# Altium schematic symbol library Resistores.SchLib: 222 symbols
Pins are listed as number, name and electrical type; pins without a type are passive.

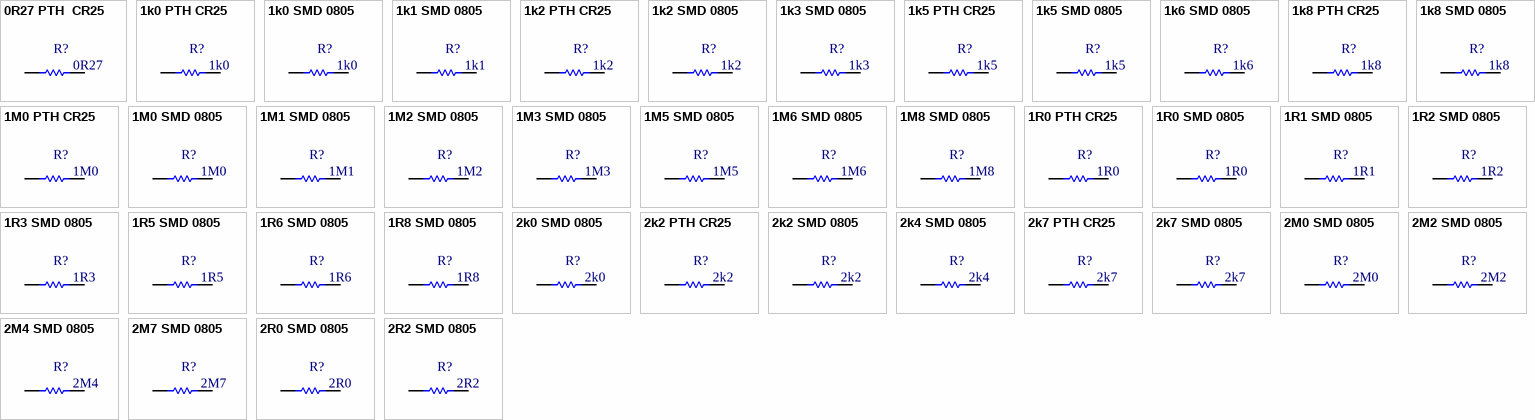
[diagram p0: symbols 0R27 PTH  CR25 to 2R2 SMD 0805]

## 0R27 PTH  CR25
designator R?  Valor/Partnumber: 0R27  (hidden comment: 0R27 PTH  CR25)
Resistor PTH CR25 1/8W; Tolerância: 5%; Fornecedor1: *; Potência: 1/8W; Montagem: PTH
footprint CR25 (PTH 400 mils)
pins: 1, 2

## 1k0 PTH CR25
designator R?, comment 1k0
Resistor PTH CR25 1/8W; Tolerância: 5%; Fornecedor1: *; Potência: 1/8W; Montagem: PTH; Valor/Partnumber: 1k0
footprint CR25 (PTH 400 mils)
pins: 1, 2

## 1k0 SMD 0805
designator R?  Valor/Partnumber: 1k0  (hidden comment: 1k0 SMD 0805)
Resistor SMD 0805 1/8W; Tolerância: 5%; Fornecedor1: *; Potência: 1/8W; Montagem: SMD
footprint 0805 (SMD 0805 inch - 2012 mm)
pins: 1, 2

## 1k1 SMD 0805
designator R?  Valor/Partnumber: 1k1  (hidden comment: 1k1 SMD 0805)
Resistor SMD 0805 1/8W; Tolerância: 5%; Fornecedor1: *; Potência: 1/8W; Montagem: SMD
footprint 0805 (SMD 0805 inch - 2012 mm)
pins: 1, 2

## 1k2 PTH CR25
designator R?, comment 1k2
Resistor PTH CR25 1/8W; Tolerância: 5%; Fornecedor1: *; Potência: 1/8W; Montagem: PTH; Valor/Partnumber: 1k2
footprint CR25 (PTH 400 mils)
pins: 1, 2

## 1k2 SMD 0805
designator R?  Valor/Partnumber: 1k2  (hidden comment: 1k2 SMD 0805)
Resistor SMD 0805 1/8W; Tolerância: 5%; Fornecedor1: *; Potência: 1/8W; Montagem: SMD
footprint 0805 (SMD 0805 inch - 2012 mm)
pins: 1, 2

## 1k3 SMD 0805
designator R?  Valor/Partnumber: 1k3  (hidden comment: 1k3 SMD 0805)
Resistor SMD 0805 1/8W; Tolerância: 5%; Fornecedor1: *; Potência: 1/8W; Montagem: SMD
footprint 0805 (SMD 0805 inch - 2012 mm)
pins: 1, 2

## 1k5 PTH CR25
designator R?, comment 1k5
Resistor PTH CR25 1/8W; Tolerância: 5%; Fornecedor1: *; Potência: 1/8W; Montagem: PTH; Valor/Partnumber: 1k5
footprint CR25 (PTH 400 mils)
pins: 1, 2

## 1k5 SMD 0805
designator R?  Valor/Partnumber: 1k5  (hidden comment: 1k5 SMD 0805)
Resistor SMD 0805 1/8W; Tolerância: 5%; Fornecedor1: *; Potência: 1/8W; Montagem: SMD
footprint 0805 (SMD 0805 inch - 2012 mm)
pins: 1, 2

## 1k6 SMD 0805
designator R?  Valor/Partnumber: 1k6  (hidden comment: 1k6 SMD 0805)
Resistor SMD 0805 1/8W; Tolerância: 5%; Fornecedor1: *; Potência: 1/8W; Montagem: SMD
footprint 0805 (SMD 0805 inch - 2012 mm)
pins: 1, 2

## 1k8 PTH CR25
designator R?, comment 1k8
Resistor PTH CR25 1/8W; Tolerância: 5%; Fornecedor1: *; Potência: 1/8W; Montagem: PTH; Valor/Partnumber: 1k8
footprint CR25 (PTH 400 mils)
pins: 1, 2

## 1k8 SMD 0805
designator R?  Valor/Partnumber: 1k8  (hidden comment: 1k8 SMD 0805)
Resistor SMD 0805 1/8W; Tolerância: 5%; Fornecedor1: *; Potência: 1/8W; Montagem: SMD
footprint 0805 (SMD 0805 inch - 2012 mm)
pins: 1, 2

## 1M0 PTH CR25
designator R?, comment 1M0
Resistor PTH CR25 1/8W; Tolerância: 5%; Fornecedor1: *; Potência: 1/8W; Montagem: PTH; Valor/Partnumber: 1M0
footprint CR25 (PTH 400 mils)
pins: 1, 2

## 1M0 SMD 0805
designator R?  Valor/Partnumber: 1M0  (hidden comment: 1M0 SMD 0805)
Resistor SMD 0805 1/8W; Tolerância: 5%; Fornecedor1: *; Potência: 1/8W; Montagem: SMD
footprint 0805 (SMD 0805 inch - 2012 mm)
pins: 1, 2

## 1M1 SMD 0805
designator R?  Valor/Partnumber: 1M1  (hidden comment: 1M1 SMD 0805)
Resistor SMD 0805 1/8W; Tolerância: 5%; Fornecedor1: *; Potência: 1/8W; Montagem: SMD
footprint 0805 (SMD 0805 inch - 2012 mm)
pins: 1, 2

## 1M2 SMD 0805
designator R?  Valor/Partnumber: 1M2  (hidden comment: 1M2 SMD 0805)
Resistor SMD 0805 1/8W; Tolerância: 5%; Fornecedor1: *; Potência: 1/8W; Montagem: SMD
footprint 0805 (SMD 0805 inch - 2012 mm)
pins: 1, 2

## 1M3 SMD 0805
designator R?  Valor/Partnumber: 1M3  (hidden comment: 1M3 SMD 0805)
Resistor SMD 0805 1/8W; Tolerância: 5%; Fornecedor1: *; Potência: 1/8W; Montagem: SMD
footprint 0805 (SMD 0805 inch - 2012 mm)
pins: 1, 2

## 1M5 SMD 0805
designator R?  Valor/Partnumber: 1M5  (hidden comment: 1M5 SMD 0805)
Resistor SMD 0805 1/8W; Tolerância: 5%; Fornecedor1: *; Potência: 1/8W; Montagem: SMD
footprint 0805 (SMD 0805 inch - 2012 mm)
pins: 1, 2

## 1M6 SMD 0805
designator R?  Valor/Partnumber: 1M6  (hidden comment: 1M6 SMD 0805)
Resistor SMD 0805 1/8W; Tolerância: 5%; Fornecedor1: *; Potência: 1/8W; Montagem: SMD
footprint 0805 (SMD 0805 inch - 2012 mm)
pins: 1, 2

## 1M8 SMD 0805
designator R?  Valor/Partnumber: 1M8  (hidden comment: 1M8 SMD 0805)
Resistor SMD 0805 1/8W; Tolerância: 5%; Fornecedor1: *; Potência: 1/8W; Montagem: SMD
footprint 0805 (SMD 0805 inch - 2012 mm)
pins: 1, 2

## 1R0 PTH CR25
designator R?, comment 1R0
Resistor PTH CR25 1/8W; Tolerância: 5%; Fornecedor1: *; Potência: 1/8W; Montagem: PTH; Valor/Partnumber: 1R0
footprint CR25 (PTH 400 mils)
pins: 1, 2

## 1R0 SMD 0805
designator R?  Valor/Partnumber: 1R0  (hidden comment: 1R0 SMD 0805)
Resistor SMD 0805 1/8W; Tolerância: 5%; Fornecedor1: *; Potência: 1/8W; Montagem: SMD
footprint 0805 (SMD 0805 inch - 2012 mm)
pins: 1, 2

## 1R1 SMD 0805
designator R?  Valor/Partnumber: 1R1  (hidden comment: 1R1 SMD 0805)
Resistor SMD 0805 1/8W; Tolerância: 5%; Fornecedor1: *; Potência: 1/8W; Montagem: SMD
footprint 0805 (SMD 0805 inch - 2012 mm)
pins: 1, 2

## 1R2 SMD 0805
designator R?  Valor/Partnumber: 1R2  (hidden comment: 1R2 SMD 0805)
Resistor SMD 0805 1/8W; Tolerância: 5%; Fornecedor1: *; Potência: 1/8W; Montagem: SMD
footprint 0805 (SMD 0805 inch - 2012 mm)
pins: 1, 2

## 1R3 SMD 0805
designator R?  Valor/Partnumber: 1R3  (hidden comment: 1R3 SMD 0805)
Resistor SMD 0805 1/8W; Tolerância: 5%; Fornecedor1: *; Potência: 1/8W; Montagem: SMD
footprint 0805 (SMD 0805 inch - 2012 mm)
pins: 1, 2

## 1R5 SMD 0805
designator R?  Valor/Partnumber: 1R5  (hidden comment: 1R5 SMD 0805)
Resistor SMD 0805 1/8W; Tolerância: 5%; Fornecedor1: *; Potência: 1/8W; Montagem: SMD
footprint 0805 (SMD 0805 inch - 2012 mm)
pins: 1, 2

## 1R6 SMD 0805
designator R?  Valor/Partnumber: 1R6  (hidden comment: 1R6 SMD 0805)
Resistor SMD 0805 1/8W; Tolerância: 5%; Fornecedor1: *; Potência: 1/8W; Montagem: SMD
footprint 0805 (SMD 0805 inch - 2012 mm)
pins: 1, 2

## 1R8 SMD 0805
designator R?  Valor/Partnumber: 1R8  (hidden comment: 1R8 SMD 0805)
Resistor SMD 0805 1/8W; Tolerância: 5%; Fornecedor1: *; Potência: 1/8W; Montagem: SMD
footprint 0805 (SMD 0805 inch - 2012 mm)
pins: 1, 2

## 2k0 SMD 0805
designator R?  Valor/Partnumber: 2k0  (hidden comment: 2k0 SMD 0805)
Resistor SMD 0805 1/8W; Tolerância: 5%; Fornecedor1: *; Potência: 1/8W; Montagem: SMD
footprint 0805 (SMD 0805 inch - 2012 mm)
pins: 1, 2

## 2k2 PTH CR25
designator R?, comment 2k2
Resistor PTH CR25 1/8W; Tolerância: 5%; Fornecedor1: *; Potência: 1/8W; Montagem: PTH; Valor/Partnumber: 2k2
footprint CR25 (PTH 400 mils)
pins: 1, 2

## 2k2 SMD 0805
designator R?  Valor/Partnumber: 2k2  (hidden comment: 2k2 SMD 0805)
Resistor SMD 0805 1/8W; Tolerância: 5%; Fornecedor1: *; Potência: 1/8W; Montagem: SMD
footprint 0805 (SMD 0805 inch - 2012 mm)
pins: 1, 2

## 2k4 SMD 0805
designator R?  Valor/Partnumber: 2k4  (hidden comment: 2k4 SMD 0805)
Resistor SMD 0805 1/8W; Tolerância: 5%; Fornecedor1: *; Potência: 1/8W; Montagem: SMD
footprint 0805 (SMD 0805 inch - 2012 mm)
pins: 1, 2

## 2k7 PTH CR25
designator R?, comment 2k7
Resistor PTH CR25 1/8W; Tolerância: 5%; Fornecedor1: *; Potência: 1/8W; Montagem: PTH; Valor/Partnumber: 2k7
footprint CR25 (PTH 400 mils)
pins: 1, 2

## 2k7 SMD 0805
designator R?  Valor/Partnumber: 2k7  (hidden comment: 2k7 SMD 0805)
Resistor SMD 0805 1/8W; Tolerância: 5%; Fornecedor1: *; Potência: 1/8W; Montagem: SMD
footprint 0805 (SMD 0805 inch - 2012 mm)
pins: 1, 2

## 2M0 SMD 0805
designator R?  Valor/Partnumber: 2M0  (hidden comment: 2M0 SMD 0805)
Resistor SMD 0805 1/8W; Tolerância: 5%; Fornecedor1: *; Potência: 1/8W; Montagem: SMD
footprint 0805 (SMD 0805 inch - 2012 mm)
pins: 1, 2

## 2M2 SMD 0805
designator R?  Valor/Partnumber: 2M2  (hidden comment: 2M2 SMD 0805)
Resistor SMD 0805 1/8W; Tolerância: 5%; Fornecedor1: *; Potência: 1/8W; Montagem: SMD
footprint 0805 (SMD 0805 inch - 2012 mm)
pins: 1, 2

## 2M4 SMD 0805
designator R?  Valor/Partnumber: 2M4  (hidden comment: 2M4 SMD 0805)
Resistor SMD 0805 1/8W; Tolerância: 5%; Fornecedor1: *; Potência: 1/8W; Montagem: SMD
footprint 0805 (SMD 0805 inch - 2012 mm)
pins: 1, 2

## 2M7 SMD 0805
designator R?  Valor/Partnumber: 2M7  (hidden comment: 2M7 SMD 0805)
Resistor SMD 0805 1/8W; Tolerância: 5%; Fornecedor1: *; Potência: 1/8W; Montagem: SMD
footprint 0805 (SMD 0805 inch - 2012 mm)
pins: 1, 2

## 2R0 SMD 0805
designator R?  Valor/Partnumber: 2R0  (hidden comment: 2R0 SMD 0805)
Resistor SMD 0805 1/8W; Tolerância: 5%; Fornecedor1: *; Potência: 1/8W; Montagem: SMD
footprint 0805 (SMD 0805 inch - 2012 mm)
pins: 1, 2

## 2R2 SMD 0805
designator R?  Valor/Partnumber: 2R2  (hidden comment: 2R2 SMD 0805)
Resistor SMD 0805 1/8W; Tolerância: 5%; Fornecedor1: *; Potência: 1/8W; Montagem: SMD
footprint 0805 (SMD 0805 inch - 2012 mm)
pins: 1, 2

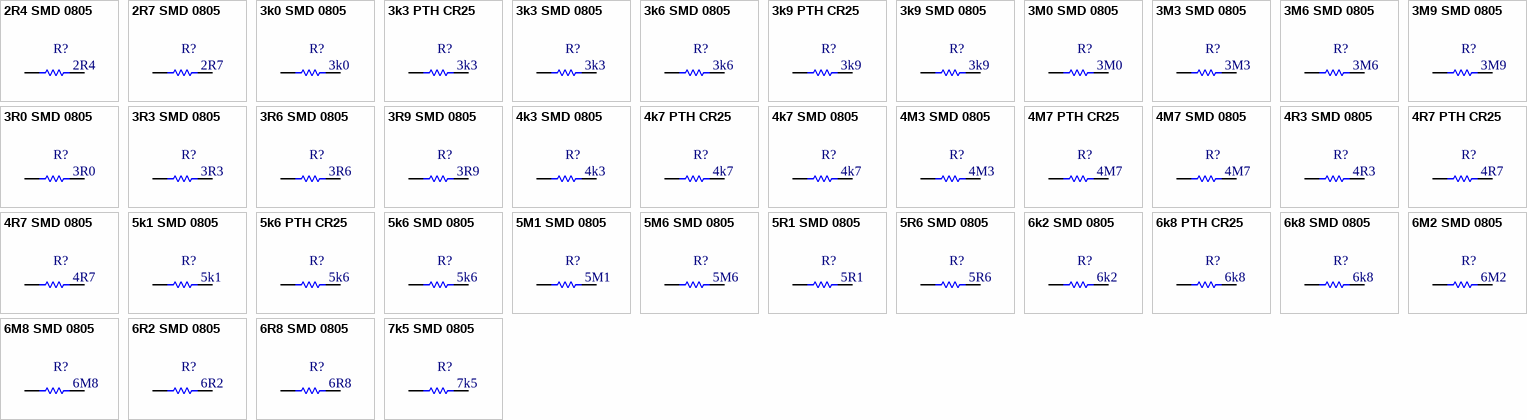
[diagram p1: symbols 2R4 SMD 0805 to 7k5 SMD 0805]

## 2R4 SMD 0805
designator R?  Valor/Partnumber: 2R4  (hidden comment: 2R4 SMD 0805)
Resistor SMD 0805 1/8W; Tolerância: 5%; Fornecedor1: *; Potência: 1/8W; Montagem: SMD
footprint 0805 (SMD 0805 inch - 2012 mm)
pins: 1, 2

## 2R7 SMD 0805
designator R?  Valor/Partnumber: 2R7  (hidden comment: 2R7 SMD 0805)
Resistor SMD 0805 1/8W; Tolerância: 5%; Fornecedor1: *; Potência: 1/8W; Montagem: SMD
footprint 0805 (SMD 0805 inch - 2012 mm)
pins: 1, 2

## 3k0 SMD 0805
designator R?  Valor/Partnumber: 3k0  (hidden comment: 3k0 SMD 0805)
Resistor SMD 0805 1/8W; Tolerância: 5%; Fornecedor1: *; Potência: 1/8W; Montagem: SMD
footprint 0805 (SMD 0805 inch - 2012 mm)
pins: 1, 2

## 3k3 PTH CR25
designator R?, comment 3k3
Resistor PTH CR25 1/8W; Tolerância: 5%; Fornecedor1: *; Potência: 1/8W; Montagem: PTH; Valor/Partnumber: 3k3
footprint CR25 (PTH 400 mils)
pins: 1, 2

## 3k3 SMD 0805
designator R?  Valor/Partnumber: 3k3  (hidden comment: 3k3 SMD 0805)
Resistor SMD 0805 1/8W; Tolerância: 5%; Fornecedor1: *; Potência: 1/8W; Montagem: SMD
footprint 0805 (SMD 0805 inch - 2012 mm)
pins: 1, 2

## 3k6 SMD 0805
designator R?  Valor/Partnumber: 3k6  (hidden comment: 3k6 SMD 0805)
Resistor SMD 0805 1/8W; Tolerância: 5%; Fornecedor1: *; Potência: 1/8W; Montagem: SMD
footprint 0805 (SMD 0805 inch - 2012 mm)
pins: 1, 2

## 3k9 PTH CR25
designator R?, comment 3k9
Resistor PTH CR25 1/8W; Tolerância: 5%; Fornecedor1: *; Potência: 1/8W; Montagem: PTH; Valor/Partnumber: 3k9
footprint CR25 (PTH 400 mils)
pins: 1, 2

## 3k9 SMD 0805
designator R?  Valor/Partnumber: 3k9  (hidden comment: 3k9 SMD 0805)
Resistor SMD 0805 1/8W; Tolerância: 5%; Fornecedor1: *; Potência: 1/8W; Montagem: SMD
footprint 0805 (SMD 0805 inch - 2012 mm)
pins: 1, 2

## 3M0 SMD 0805
designator R?  Valor/Partnumber: 3M0  (hidden comment: 3M0 SMD 0805)
Resistor SMD 0805 1/8W; Tolerância: 5%; Fornecedor1: *; Potência: 1/8W; Montagem: SMD
footprint 0805 (SMD 0805 inch - 2012 mm)
pins: 1, 2

## 3M3 SMD 0805
designator R?  Valor/Partnumber: 3M3  (hidden comment: 3M3 SMD 0805)
Resistor SMD 0805 1/8W; Tolerância: 5%; Fornecedor1: *; Potência: 1/8W; Montagem: SMD
footprint 0805 (SMD 0805 inch - 2012 mm)
pins: 1, 2

## 3M6 SMD 0805
designator R?  Valor/Partnumber: 3M6  (hidden comment: 3M6 SMD 0805)
Resistor SMD 0805 1/8W; Tolerância: 5%; Fornecedor1: *; Potência: 1/8W; Montagem: SMD
footprint 0805 (SMD 0805 inch - 2012 mm)
pins: 1, 2

## 3M9 SMD 0805
designator R?  Valor/Partnumber: 3M9  (hidden comment: 3M9 SMD 0805)
Resistor SMD 0805 1/8W; Tolerância: 5%; Fornecedor1: *; Potência: 1/8W; Montagem: SMD
footprint 0805 (SMD 0805 inch - 2012 mm)
pins: 1, 2

## 3R0 SMD 0805
designator R?  Valor/Partnumber: 3R0  (hidden comment: 3R0 SMD 0805)
Resistor SMD 0805 1/8W; Tolerância: 5%; Fornecedor1: *; Potência: 1/8W; Montagem: SMD
footprint 0805 (SMD 0805 inch - 2012 mm)
pins: 1, 2

## 3R3 SMD 0805
designator R?  Valor/Partnumber: 3R3  (hidden comment: 3R3 SMD 0805)
Resistor SMD 0805 1/8W; Tolerância: 5%; Fornecedor1: *; Potência: 1/8W; Montagem: SMD
footprint 0805 (SMD 0805 inch - 2012 mm)
pins: 1, 2

## 3R6 SMD 0805
designator R?  Valor/Partnumber: 3R6  (hidden comment: 3R6 SMD 0805)
Resistor SMD 0805 1/8W; Tolerância: 5%; Fornecedor1: *; Potência: 1/8W; Montagem: SMD
footprint 0805 (SMD 0805 inch - 2012 mm)
pins: 1, 2

## 3R9 SMD 0805
designator R?  Valor/Partnumber: 3R9  (hidden comment: 3R9 SMD 0805)
Resistor SMD 0805 1/8W; Tolerância: 5%; Fornecedor1: *; Potência: 1/8W; Montagem: SMD
footprint 0805 (SMD 0805 inch - 2012 mm)
pins: 1, 2

## 4k3 SMD 0805
designator R?  Valor/Partnumber: 4k3  (hidden comment: 4k3 SMD 0805)
Resistor SMD 0805 1/8W; Tolerância: 5%; Fornecedor1: *; Potência: 1/8W; Montagem: SMD
footprint 0805 (SMD 0805 inch - 2012 mm)
pins: 1, 2

## 4k7 PTH CR25
designator R?, comment 4k7
Resistor PTH CR25 1/8W; Tolerância: 5%; Fornecedor1: *; Potência: 1/8W; Montagem: PTH; Valor/Partnumber: 4k7
footprint CR25 (PTH 400 mils)
pins: 1, 2

## 4k7 SMD 0805
designator R?  Valor/Partnumber: 4k7  (hidden comment: 4k7 SMD 0805)
Resistor SMD 0805 1/8W; Tolerância: 5%; Fornecedor1: *; Potência: 1/8W; Montagem: SMD
footprint 0805 (SMD 0805 inch - 2012 mm)
pins: 1, 2

## 4M3 SMD 0805
designator R?  Valor/Partnumber: 4M3  (hidden comment: 4M3 SMD 0805)
Resistor SMD 0805 1/8W; Tolerância: 5%; Fornecedor1: *; Potência: 1/8W; Montagem: SMD
footprint 0805 (SMD 0805 inch - 2012 mm)
pins: 1, 2

## 4M7 PTH CR25
designator R?, comment 4M7
Resistor PTH CR25 1/8W; Tolerância: 5%; Fornecedor1: *; Potência: 1/8W; Montagem: PTH; Valor/Partnumber: 4M7
footprint CR25 (PTH 400 mils)
pins: 1, 2

## 4M7 SMD 0805
designator R?  Valor/Partnumber: 4M7  (hidden comment: 4M7 SMD 0805)
Resistor SMD 0805 1/8W; Tolerância: 5%; Fornecedor1: *; Potência: 1/8W; Montagem: SMD
footprint 0805 (SMD 0805 inch - 2012 mm)
pins: 1, 2

## 4R3 SMD 0805
designator R?  Valor/Partnumber: 4R3  (hidden comment: 4R3 SMD 0805)
Resistor SMD 0805 1/8W; Tolerância: 5%; Fornecedor1: *; Potência: 1/8W; Montagem: SMD
footprint 0805 (SMD 0805 inch - 2012 mm)
pins: 1, 2

## 4R7 PTH CR25
designator R?, comment 4R7
Resistor PTH CR25 1/8W; Tolerância: 5%; Fornecedor1: *; Potência: 1/8W; Montagem: PTH; Valor/Partnumber: 4R7
footprint CR25 (PTH 400 mils)
pins: 1, 2

## 4R7 SMD 0805
designator R?  Valor/Partnumber: 4R7  (hidden comment: 4R7 SMD 0805)
Resistor SMD 0805 1/8W; Tolerância: 5%; Fornecedor1: *; Potência: 1/8W; Montagem: SMD
footprint 0805 (SMD 0805 inch - 2012 mm)
pins: 1, 2

## 5k1 SMD 0805
designator R?  Valor/Partnumber: 5k1  (hidden comment: 5k1 SMD 0805)
Resistor SMD 0805 1/8W; Tolerância: 5%; Fornecedor1: *; Potência: 1/8W; Montagem: SMD
footprint 0805 (SMD 0805 inch - 2012 mm)
pins: 1, 2

## 5k6 PTH CR25
designator R?, comment 5k6
Resistor PTH CR25 1/8W; Tolerância: 5%; Fornecedor1: *; Potência: 1/8W; Montagem: PTH; Valor/Partnumber: 5k6
footprint CR25 (PTH 400 mils)
pins: 1, 2

## 5k6 SMD 0805
designator R?  Valor/Partnumber: 5k6  (hidden comment: 5k6 SMD 0805)
Resistor SMD 0805 1/8W; Tolerância: 5%; Fornecedor1: *; Potência: 1/8W; Montagem: SMD
footprint 0805 (SMD 0805 inch - 2012 mm)
pins: 1, 2

## 5M1 SMD 0805
designator R?  Valor/Partnumber: 5M1  (hidden comment: 5M1 SMD 0805)
Resistor SMD 0805 1/8W; Tolerância: 5%; Fornecedor1: *; Potência: 1/8W; Montagem: SMD
footprint 0805 (SMD 0805 inch - 2012 mm)
pins: 1, 2

## 5M6 SMD 0805
designator R?  Valor/Partnumber: 5M6  (hidden comment: 5M6 SMD 0805)
Resistor SMD 0805 1/8W; Tolerância: 5%; Fornecedor1: *; Potência: 1/8W; Montagem: SMD
footprint 0805 (SMD 0805 inch - 2012 mm)
pins: 1, 2

## 5R1 SMD 0805
designator R?  Valor/Partnumber: 5R1  (hidden comment: 5R1 SMD 0805)
Resistor SMD 0805 1/8W; Tolerância: 5%; Fornecedor1: *; Potência: 1/8W; Montagem: SMD
footprint 0805 (SMD 0805 inch - 2012 mm)
pins: 1, 2

## 5R6 SMD 0805
designator R?  Valor/Partnumber: 5R6  (hidden comment: 5R6 SMD 0805)
Resistor SMD 0805 1/8W; Tolerância: 5%; Fornecedor1: *; Potência: 1/8W; Montagem: SMD
footprint 0805 (SMD 0805 inch - 2012 mm)
pins: 1, 2

## 6k2 SMD 0805
designator R?  Valor/Partnumber: 6k2  (hidden comment: 6k2 SMD 0805)
Resistor SMD 0805 1/8W; Tolerância: 5%; Fornecedor1: *; Potência: 1/8W; Montagem: SMD
footprint 0805 (SMD 0805 inch - 2012 mm)
pins: 1, 2

## 6k8 PTH CR25
designator R?, comment 6k8
Resistor PTH CR25 1/8W; Tolerância: 5%; Fornecedor1: *; Potência: 1/8W; Montagem: PTH; Valor/Partnumber: 6k8
footprint CR25 (PTH 400 mils)
pins: 1, 2

## 6k8 SMD 0805
designator R?  Valor/Partnumber: 6k8  (hidden comment: 6k8 SMD 0805)
Resistor SMD 0805 1/8W; Tolerância: 5%; Fornecedor1: *; Potência: 1/8W; Montagem: SMD
footprint 0805 (SMD 0805 inch - 2012 mm)
pins: 1, 2

## 6M2 SMD 0805
designator R?  Valor/Partnumber: 6M2  (hidden comment: 6M2 SMD 0805)
Resistor SMD 0805 1/8W; Tolerância: 5%; Fornecedor1: *; Potência: 1/8W; Montagem: SMD
footprint 0805 (SMD 0805 inch - 2012 mm)
pins: 1, 2

## 6M8 SMD 0805
designator R?  Valor/Partnumber: 6M8  (hidden comment: 6M8 SMD 0805)
Resistor SMD 0805 1/8W; Tolerância: 5%; Fornecedor1: *; Potência: 1/8W; Montagem: SMD
footprint 0805 (SMD 0805 inch - 2012 mm)
pins: 1, 2

## 6R2 SMD 0805
designator R?  Valor/Partnumber: 6R2  (hidden comment: 6R2 SMD 0805)
Resistor SMD 0805 1/8W; Tolerância: 5%; Fornecedor1: *; Potência: 1/8W; Montagem: SMD
footprint 0805 (SMD 0805 inch - 2012 mm)
pins: 1, 2

## 6R8 SMD 0805
designator R?  Valor/Partnumber: 6R8  (hidden comment: 6R8 SMD 0805)
Resistor SMD 0805 1/8W; Tolerância: 5%; Fornecedor1: *; Potência: 1/8W; Montagem: SMD
footprint 0805 (SMD 0805 inch - 2012 mm)
pins: 1, 2

## 7k5 SMD 0805
designator R?  Valor/Partnumber: 7k5  (hidden comment: 7k5 SMD 0805)
Resistor SMD 0805 1/8W; Tolerância: 5%; Fornecedor1: *; Potência: 1/8W; Montagem: SMD
footprint 0805 (SMD 0805 inch - 2012 mm)
pins: 1, 2

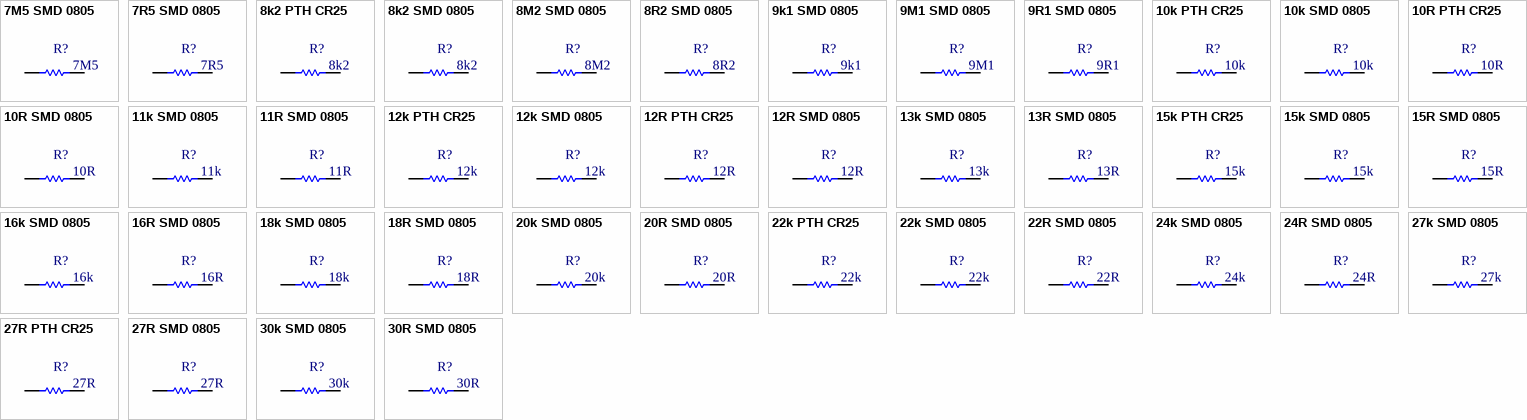
[diagram p2: symbols 7M5 SMD 0805 to 30R SMD 0805]

## 7M5 SMD 0805
designator R?  Valor/Partnumber: 7M5  (hidden comment: 7M5 SMD 0805)
Resistor SMD 0805 1/8W; Tolerância: 5%; Fornecedor1: *; Potência: 1/8W; Montagem: SMD
footprint 0805 (SMD 0805 inch - 2012 mm)
pins: 1, 2

## 7R5 SMD 0805
designator R?  Valor/Partnumber: 7R5  (hidden comment: 7R5 SMD 0805)
Resistor SMD 0805 1/8W; Tolerância: 5%; Fornecedor1: *; Potência: 1/8W; Montagem: SMD
footprint 0805 (SMD 0805 inch - 2012 mm)
pins: 1, 2

## 8k2 PTH CR25
designator R?, comment 8k2
Resistor PTH CR25 1/8W; Tolerância: 5%; Fornecedor1: *; Potência: 1/8W; Montagem: PTH; Valor/Partnumber: 8k2
footprint CR25 (PTH 400 mils)
pins: 1, 2

## 8k2 SMD 0805
designator R?  Valor/Partnumber: 8k2  (hidden comment: 8k2 SMD 0805)
Resistor SMD 0805 1/8W; Tolerância: 5%; Fornecedor1: *; Potência: 1/8W; Montagem: SMD
footprint 0805 (SMD 0805 inch - 2012 mm)
pins: 1, 2

## 8M2 SMD 0805
designator R?  Valor/Partnumber: 8M2  (hidden comment: 8M2 SMD 0805)
Resistor SMD 0805 1/8W; Tolerância: 5%; Fornecedor1: *; Potência: 1/8W; Montagem: SMD
footprint 0805 (SMD 0805 inch - 2012 mm)
pins: 1, 2

## 8R2 SMD 0805
designator R?  Valor/Partnumber: 8R2  (hidden comment: 8R2 SMD 0805)
Resistor SMD 0805 1/8W; Tolerância: 5%; Fornecedor1: *; Potência: 1/8W; Montagem: SMD
footprint 0805 (SMD 0805 inch - 2012 mm)
pins: 1, 2

## 9k1 SMD 0805
designator R?  Valor/Partnumber: 9k1  (hidden comment: 9k1 SMD 0805)
Resistor SMD 0805 1/8W; Tolerância: 5%; Fornecedor1: *; Potência: 1/8W; Montagem: SMD
footprint 0805 (SMD 0805 inch - 2012 mm)
pins: 1, 2

## 9M1 SMD 0805
designator R?  Valor/Partnumber: 9M1  (hidden comment: 9M1 SMD 0805)
Resistor SMD 0805 1/8W; Tolerância: 5%; Fornecedor1: *; Potência: 1/8W; Montagem: SMD
footprint 0805 (SMD 0805 inch - 2012 mm)
pins: 1, 2

## 9R1 SMD 0805
designator R?  Valor/Partnumber: 9R1  (hidden comment: 9R1 SMD 0805)
Resistor SMD 0805 1/8W; Tolerância: 5%; Fornecedor1: *; Potência: 1/8W; Montagem: SMD
footprint 0805 (SMD 0805 inch - 2012 mm)
pins: 1, 2

## 10k PTH CR25
designator R?, comment 10k
Resistor PTH CR25 1/8W; Tolerância: 5%; Fornecedor1: *; Potência: 1/8W; Montagem: PTH; Valor/Partnumber: 10k
footprint CR25 (PTH 400 mils)
pins: 1, 2

## 10k SMD 0805
designator R?  Valor/Partnumber: 10k  (hidden comment: 10k SMD 0805)
Resistor SMD 0805 1/8W; Tolerância: 5%; Fornecedor1: *; Potência: 1/8W; Montagem: SMD
footprint 0805 (SMD 0805 inch - 2012 mm)
pins: 1, 2

## 10R PTH CR25
designator R?, comment 10R
Resistor PTH CR25 1/8W; Tolerância: 5%; Fornecedor1: *; Potência: 1/8W; Montagem: PTH; Valor/Partnumber: 10R
footprint CR25 (PTH 400 mils)
pins: 1, 2

## 10R SMD 0805
designator R?  Valor/Partnumber: 10R  (hidden comment: 10R SMD 0805)
Resistor SMD 0805 1/8W; Tolerância: 5%; Fornecedor1: *; Potência: 1/8W; Montagem: SMD
footprint 0805 (SMD 0805 inch - 2012 mm)
pins: 1, 2

## 11k SMD 0805
designator R?  Valor/Partnumber: 11k  (hidden comment: 11k SMD 0805)
Resistor SMD 0805 1/8W; Tolerância: 5%; Fornecedor1: *; Potência: 1/8W; Montagem: SMD
footprint 0805 (SMD 0805 inch - 2012 mm)
pins: 1, 2

## 11R SMD 0805
designator R?  Valor/Partnumber: 11R  (hidden comment: 11R SMD 0805)
Resistor SMD 0805 1/8W; Tolerância: 5%; Fornecedor1: *; Potência: 1/8W; Montagem: SMD
footprint 0805 (SMD 0805 inch - 2012 mm)
pins: 1, 2

## 12k PTH CR25
designator R?, comment 12k
Resistor PTH CR25 1/8W; Tolerância: 5%; Fornecedor1: *; Potência: 1/8W; Montagem: PTH; Valor/Partnumber: 12k
footprint CR25 (PTH 400 mils)
pins: 1, 2

## 12k SMD 0805
designator R?  Valor/Partnumber: 12k  (hidden comment: 12k SMD 0805)
Resistor SMD 0805 1/8W; Tolerância: 5%; Fornecedor1: *; Potência: 1/8W; Montagem: SMD
footprint 0805 (SMD 0805 inch - 2012 mm)
pins: 1, 2

## 12R PTH CR25
designator R?, comment 12R
Resistor PTH CR25 1/8W; Tolerância: 5%; Fornecedor1: *; Potência: 1/8W; Montagem: PTH; Valor/Partnumber: 12R
footprint CR25 (PTH 400 mils)
pins: 1, 2

## 12R SMD 0805
designator R?  Valor/Partnumber: 12R  (hidden comment: 12R SMD 0805)
Resistor SMD 0805 1/8W; Tolerância: 5%; Fornecedor1: *; Potência: 1/8W; Montagem: SMD
footprint 0805 (SMD 0805 inch - 2012 mm)
pins: 1, 2

## 13k SMD 0805
designator R?  Valor/Partnumber: 13k  (hidden comment: 13k SMD 0805)
Resistor SMD 0805 1/8W; Tolerância: 5%; Fornecedor1: *; Potência: 1/8W; Montagem: SMD
footprint 0805 (SMD 0805 inch - 2012 mm)
pins: 1, 2

## 13R SMD 0805
designator R?  Valor/Partnumber: 13R  (hidden comment: 13R SMD 0805)
Resistor SMD 0805 1/8W; Tolerância: 5%; Fornecedor1: *; Potência: 1/8W; Montagem: SMD
footprint 0805 (SMD 0805 inch - 2012 mm)
pins: 1, 2

## 15k PTH CR25
designator R?, comment 15k
Resistor PTH CR25 1/8W; Tolerância: 5%; Fornecedor1: *; Potência: 1/8W; Montagem: PTH; Valor/Partnumber: 15k
footprint CR25 (PTH 400 mils)
pins: 1, 2

## 15k SMD 0805
designator R?  Valor/Partnumber: 15k  (hidden comment: 15k SMD 0805)
Resistor SMD 0805 1/8W; Tolerância: 5%; Fornecedor1: *; Potência: 1/8W; Montagem: SMD
footprint 0805 (SMD 0805 inch - 2012 mm)
pins: 1, 2

## 15R SMD 0805
designator R?  Valor/Partnumber: 15R  (hidden comment: 15R SMD 0805)
Resistor SMD 0805 1/8W; Tolerância: 5%; Fornecedor1: *; Potência: 1/8W; Montagem: SMD
footprint 0805 (SMD 0805 inch - 2012 mm)
pins: 1, 2

## 16k SMD 0805
designator R?  Valor/Partnumber: 16k  (hidden comment: 16k SMD 0805)
Resistor SMD 0805 1/8W; Tolerância: 5%; Fornecedor1: *; Potência: 1/8W; Montagem: SMD
footprint 0805 (SMD 0805 inch - 2012 mm)
pins: 1, 2

## 16R SMD 0805
designator R?  Valor/Partnumber: 16R  (hidden comment: 16R SMD 0805)
Resistor SMD 0805 1/8W; Tolerância: 5%; Fornecedor1: *; Potência: 1/8W; Montagem: SMD
footprint 0805 (SMD 0805 inch - 2012 mm)
pins: 1, 2

## 18k SMD 0805
designator R?  Valor/Partnumber: 18k  (hidden comment: 18k SMD 0805)
Resistor SMD 0805 1/8W; Tolerância: 5%; Fornecedor1: *; Potência: 1/8W; Montagem: SMD
footprint 0805 (SMD 0805 inch - 2012 mm)
pins: 1, 2

## 18R SMD 0805
designator R?  Valor/Partnumber: 18R  (hidden comment: 18R SMD 0805)
Resistor SMD 0805 1/8W; Tolerância: 5%; Fornecedor1: *; Potência: 1/8W; Montagem: SMD
footprint 0805 (SMD 0805 inch - 2012 mm)
pins: 1, 2

## 20k SMD 0805
designator R?  Valor/Partnumber: 20k  (hidden comment: 20k SMD 0805)
Resistor SMD 0805 1/8W; Tolerância: 5%; Fornecedor1: *; Potência: 1/8W; Montagem: SMD
footprint 0805 (SMD 0805 inch - 2012 mm)
pins: 1, 2

## 20R SMD 0805
designator R?  Valor/Partnumber: 20R  (hidden comment: 20R SMD 0805)
Resistor SMD 0805 1/8W; Tolerância: 5%; Fornecedor1: *; Potência: 1/8W; Montagem: SMD
footprint 0805 (SMD 0805 inch - 2012 mm)
pins: 1, 2

## 22k PTH CR25
designator R?, comment 22k
Resistor PTH CR25 1/8W; Tolerância: 5%; Fornecedor1: *; Potência: 1/8W; Montagem: PTH; Valor/Partnumber: 22k
footprint CR25 (PTH 400 mils)
pins: 1, 2

## 22k SMD 0805
designator R?  Valor/Partnumber: 22k  (hidden comment: 22k SMD 0805)
Resistor SMD 0805 1/8W; Tolerância: 5%; Fornecedor1: *; Potência: 1/8W; Montagem: SMD
footprint 0805 (SMD 0805 inch - 2012 mm)
pins: 1, 2

## 22R SMD 0805
designator R?  Valor/Partnumber: 22R  (hidden comment: 22R SMD 0805)
Resistor SMD 0805 1/8W; Tolerância: 5%; Fornecedor1: *; Potência: 1/8W; Montagem: SMD
footprint 0805 (SMD 0805 inch - 2012 mm)
pins: 1, 2

## 24k SMD 0805
designator R?  Valor/Partnumber: 24k  (hidden comment: 24k SMD 0805)
Resistor SMD 0805 1/8W; Tolerância: 5%; Fornecedor1: *; Potência: 1/8W; Montagem: SMD
footprint 0805 (SMD 0805 inch - 2012 mm)
pins: 1, 2

## 24R SMD 0805
designator R?  Valor/Partnumber: 24R  (hidden comment: 24R SMD 0805)
Resistor SMD 0805 1/8W; Tolerância: 5%; Fornecedor1: *; Potência: 1/8W; Montagem: SMD
footprint 0805 (SMD 0805 inch - 2012 mm)
pins: 1, 2

## 27k SMD 0805
designator R?  Valor/Partnumber: 27k  (hidden comment: 27k SMD 0805)
Resistor SMD 0805 1/8W; Tolerância: 5%; Fornecedor1: *; Potência: 1/8W; Montagem: SMD
footprint 0805 (SMD 0805 inch - 2012 mm)
pins: 1, 2

## 27R PTH CR25
designator R?, comment 27R
Resistor PTH CR25 1/8W; Tolerância: 5%; Fornecedor1: *; Potência: 1/8W; Montagem: PTH; Valor/Partnumber: 27R
footprint CR25 (PTH 400 mils)
pins: 1, 2

## 27R SMD 0805
designator R?  Valor/Partnumber: 27R  (hidden comment: 27R SMD 0805)
Resistor SMD 0805 1/8W; Tolerância: 5%; Fornecedor1: *; Potência: 1/8W; Montagem: SMD
footprint 0805 (SMD 0805 inch - 2012 mm)
pins: 1, 2

## 30k SMD 0805
designator R?  Valor/Partnumber: 30k  (hidden comment: 30k SMD 0805)
Resistor SMD 0805 1/8W; Tolerância: 5%; Fornecedor1: *; Potência: 1/8W; Montagem: SMD
footprint 0805 (SMD 0805 inch - 2012 mm)
pins: 1, 2

## 30R SMD 0805
designator R?  Valor/Partnumber: 30R  (hidden comment: 30R SMD 0805)
Resistor SMD 0805 1/8W; Tolerância: 5%; Fornecedor1: *; Potência: 1/8W; Montagem: SMD
footprint 0805 (SMD 0805 inch - 2012 mm)
pins: 1, 2

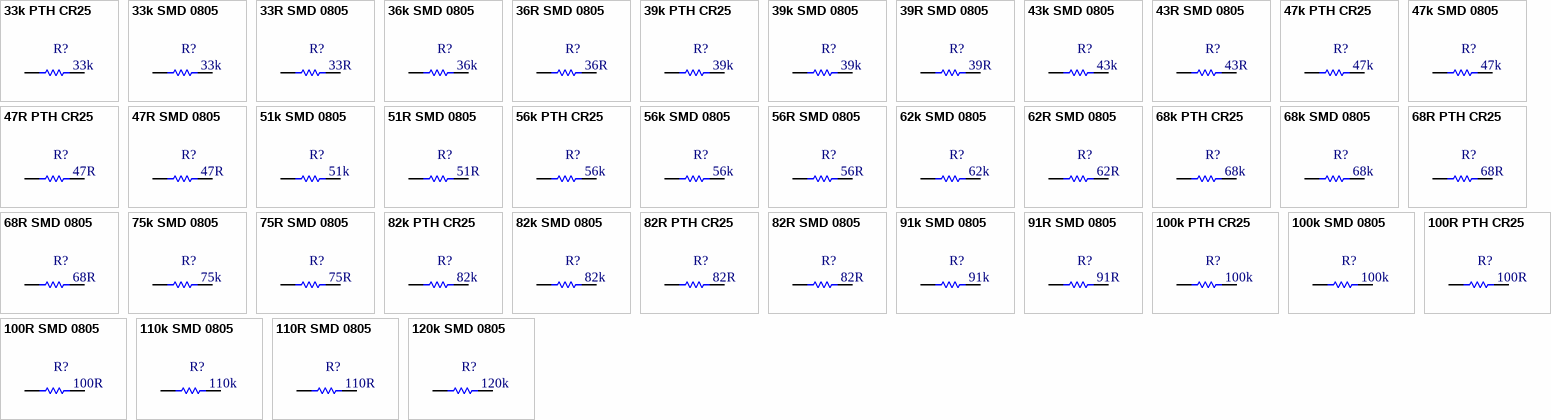
[diagram p3: symbols 33k PTH CR25 to 120k SMD 0805]

## 33k PTH CR25
designator R?, comment 33k
Resistor PTH CR25 1/8W; Tolerância: 5%; Fornecedor1: *; Potência: 1/8W; Montagem: PTH; Valor/Partnumber: 33k
footprint CR25 (PTH 400 mils)
pins: 1, 2

## 33k SMD 0805
designator R?  Valor/Partnumber: 33k  (hidden comment: 33k SMD 0805)
Resistor SMD 0805 1/8W; Tolerância: 5%; Fornecedor1: *; Potência: 1/8W; Montagem: SMD
footprint 0805 (SMD 0805 inch - 2012 mm)
pins: 1, 2

## 33R SMD 0805
designator R?  Valor/Partnumber: 33R  (hidden comment: 33R SMD 0805)
Resistor SMD 0805 1/8W; Tolerância: 5%; Fornecedor1: *; Potência: 1/8W; Montagem: SMD
footprint 0805 (SMD 0805 inch - 2012 mm)
pins: 1, 2

## 36k SMD 0805
designator R?  Valor/Partnumber: 36k  (hidden comment: 36k SMD 0805)
Resistor SMD 0805 1/8W; Tolerância: 5%; Fornecedor1: *; Potência: 1/8W; Montagem: SMD
footprint 0805 (SMD 0805 inch - 2012 mm)
pins: 1, 2

## 36R SMD 0805
designator R?  Valor/Partnumber: 36R  (hidden comment: 36R SMD 0805)
Resistor SMD 0805 1/8W; Tolerância: 5%; Fornecedor1: *; Potência: 1/8W; Montagem: SMD
footprint 0805 (SMD 0805 inch - 2012 mm)
pins: 1, 2

## 39k PTH CR25
designator R?, comment 39k
Resistor PTH CR25 1/8W; Tolerância: 5%; Fornecedor1: *; Potência: 1/8W; Montagem: PTH; Valor/Partnumber: 39k
footprint CR25 (PTH 400 mils)
pins: 1, 2

## 39k SMD 0805
designator R?  Valor/Partnumber: 39k  (hidden comment: 39k SMD 0805)
Resistor SMD 0805 1/8W; Tolerância: 5%; Fornecedor1: *; Potência: 1/8W; Montagem: SMD
footprint 0805 (SMD 0805 inch - 2012 mm)
pins: 1, 2

## 39R SMD 0805
designator R?  Valor/Partnumber: 39R  (hidden comment: 39R SMD 0805)
Resistor SMD 0805 1/8W; Tolerância: 5%; Fornecedor1: *; Potência: 1/8W; Montagem: SMD
footprint 0805 (SMD 0805 inch - 2012 mm)
pins: 1, 2

## 43k SMD 0805
designator R?  Valor/Partnumber: 43k  (hidden comment: 43k SMD 0805)
Resistor SMD 0805 1/8W; Tolerância: 5%; Fornecedor1: *; Potência: 1/8W; Montagem: SMD
footprint 0805 (SMD 0805 inch - 2012 mm)
pins: 1, 2

## 43R SMD 0805
designator R?  Valor/Partnumber: 43R  (hidden comment: 43R SMD 0805)
Resistor SMD 0805 1/8W; Tolerância: 5%; Fornecedor1: *; Potência: 1/8W; Montagem: SMD
footprint 0805 (SMD 0805 inch - 2012 mm)
pins: 1, 2

## 47k PTH CR25
designator R?, comment 47k
Resistor PTH CR25 1/8W; Tolerância: 5%; Fornecedor1: *; Potência: 1/8W; Montagem: PTH; Valor/Partnumber: 47k
footprint CR25 (PTH 400 mils)
pins: 1, 2

## 47k SMD 0805
designator R?  Valor/Partnumber: 47k  (hidden comment: 47k SMD 0805)
Resistor SMD 0805 1/8W; Tolerância: 5%; Fornecedor1: *; Potência: 1/8W; Montagem: SMD
footprint 0805 (SMD 0805 inch - 2012 mm)
pins: 1, 2

## 47R PTH CR25
designator R?, comment 47R
Resistor PTH CR25 1/8W; Tolerância: 5%; Fornecedor1: *; Potência: 1/8W; Montagem: PTH; Valor/Partnumber: 47R
footprint CR25 (PTH 400 mils)
pins: 1, 2

## 47R SMD 0805
designator R?  Valor/Partnumber: 47R  (hidden comment: 47R SMD 0805)
Resistor SMD 0805 1/8W; Tolerância: 5%; Fornecedor1: *; Potência: 1/8W; Montagem: SMD
footprint 0805 (SMD 0805 inch - 2012 mm)
pins: 1, 2

## 51k SMD 0805
designator R?  Valor/Partnumber: 51k  (hidden comment: 51k SMD 0805)
Resistor SMD 0805 1/8W; Tolerância: 5%; Fornecedor1: *; Potência: 1/8W; Montagem: SMD
footprint 0805 (SMD 0805 inch - 2012 mm)
pins: 1, 2

## 51R SMD 0805
designator R?  Valor/Partnumber: 51R  (hidden comment: 51R SMD 0805)
Resistor SMD 0805 1/8W; Tolerância: 5%; Fornecedor1: *; Potência: 1/8W; Montagem: SMD
footprint 0805 (SMD 0805 inch - 2012 mm)
pins: 1, 2

## 56k PTH CR25
designator R?, comment 56k
Resistor PTH CR25 1/8W; Tolerância: 5%; Fornecedor1: *; Potência: 1/8W; Montagem: PTH; Valor/Partnumber: 56k
footprint CR25 (PTH 400 mils)
pins: 1, 2

## 56k SMD 0805
designator R?  Valor/Partnumber: 56k  (hidden comment: 56k SMD 0805)
Resistor SMD 0805 1/8W; Tolerância: 5%; Fornecedor1: *; Potência: 1/8W; Montagem: SMD
footprint 0805 (SMD 0805 inch - 2012 mm)
pins: 1, 2

## 56R SMD 0805
designator R?  Valor/Partnumber: 56R  (hidden comment: 56R SMD 0805)
Resistor SMD 0805 1/8W; Tolerância: 5%; Fornecedor1: *; Potência: 1/8W; Montagem: SMD
footprint 0805 (SMD 0805 inch - 2012 mm)
pins: 1, 2

## 62k SMD 0805
designator R?  Valor/Partnumber: 62k  (hidden comment: 62k SMD 0805)
Resistor SMD 0805 1/8W; Tolerância: 5%; Fornecedor1: *; Potência: 1/8W; Montagem: SMD
footprint 0805 (SMD 0805 inch - 2012 mm)
pins: 1, 2

## 62R SMD 0805
designator R?  Valor/Partnumber: 62R  (hidden comment: 62R SMD 0805)
Resistor SMD 0805 1/8W; Tolerância: 5%; Fornecedor1: *; Potência: 1/8W; Montagem: SMD
footprint 0805 (SMD 0805 inch - 2012 mm)
pins: 1, 2

## 68k PTH CR25
designator R?, comment 68k
Resistor PTH CR25 1/8W; Tolerância: 5%; Fornecedor1: *; Potência: 1/8W; Montagem: PTH; Valor/Partnumber: 68k
footprint CR25 (PTH 400 mils)
pins: 1, 2

## 68k SMD 0805
designator R?  Valor/Partnumber: 68k  (hidden comment: 68k SMD 0805)
Resistor SMD 0805 1/8W; Tolerância: 5%; Fornecedor1: *; Potência: 1/8W; Montagem: SMD
footprint 0805 (SMD 0805 inch - 2012 mm)
pins: 1, 2

## 68R PTH CR25
designator R?, comment 68R
Resistor PTH CR25 1/8W; Tolerância: 5%; Fornecedor1: *; Potência: 1/8W; Montagem: PTH; Valor/Partnumber: 68R
footprint CR25 (PTH 400 mils)
pins: 1, 2

## 68R SMD 0805
designator R?  Valor/Partnumber: 68R  (hidden comment: 68R SMD 0805)
Resistor SMD 0805 1/8W; Tolerância: 5%; Fornecedor1: *; Potência: 1/8W; Montagem: SMD
footprint 0805 (SMD 0805 inch - 2012 mm)
pins: 1, 2

## 75k SMD 0805
designator R?  Valor/Partnumber: 75k  (hidden comment: 75k SMD 0805)
Resistor SMD 0805 1/8W; Tolerância: 5%; Fornecedor1: *; Potência: 1/8W; Montagem: SMD
footprint 0805 (SMD 0805 inch - 2012 mm)
pins: 1, 2

## 75R SMD 0805
designator R?  Valor/Partnumber: 75R  (hidden comment: 75R SMD 0805)
Resistor SMD 0805 1/8W; Tolerância: 5%; Fornecedor1: *; Potência: 1/8W; Montagem: SMD
footprint 0805 (SMD 0805 inch - 2012 mm)
pins: 1, 2

## 82k PTH CR25
designator R?, comment 82k
Resistor PTH CR25 1/8W; Tolerância: 5%; Fornecedor1: *; Potência: 1/8W; Montagem: PTH; Valor/Partnumber: 82k
footprint CR25 (PTH 400 mils)
pins: 1, 2

## 82k SMD 0805
designator R?  Valor/Partnumber: 82k  (hidden comment: 82k SMD 0805)
Resistor SMD 0805 1/8W; Tolerância: 5%; Fornecedor1: *; Potência: 1/8W; Montagem: SMD
footprint 0805 (SMD 0805 inch - 2012 mm)
pins: 1, 2

## 82R PTH CR25
designator R?, comment 82R
Resistor PTH CR25 1/8W; Tolerância: 5%; Fornecedor1: *; Potência: 1/8W; Montagem: PTH; Valor/Partnumber: 82R
footprint CR25 (PTH 400 mils)
pins: 1, 2

## 82R SMD 0805
designator R?  Valor/Partnumber: 82R  (hidden comment: 82R SMD 0805)
Resistor SMD 0805 1/8W; Tolerância: 5%; Fornecedor1: *; Potência: 1/8W; Montagem: SMD
footprint 0805 (SMD 0805 inch - 2012 mm)
pins: 1, 2

## 91k SMD 0805
designator R?  Valor/Partnumber: 91k  (hidden comment: 91k SMD 0805)
Resistor SMD 0805 1/8W; Tolerância: 5%; Fornecedor1: *; Potência: 1/8W; Montagem: SMD
footprint 0805 (SMD 0805 inch - 2012 mm)
pins: 1, 2

## 91R SMD 0805
designator R?  Valor/Partnumber: 91R  (hidden comment: 91R SMD 0805)
Resistor SMD 0805 1/8W; Tolerância: 5%; Fornecimento: Montadora; Fornecedor1: *; Potência: 1/8W; Montagem: SMD
footprint 0805 (SMD 0805 inch - 2012 mm)
pins: 1, 2

## 100k PTH CR25
designator R?, comment 100k
Resistor PTH CR25 1/8W; Tolerância: 5%; Fornecedor1: *; Potência: 1/8W; Montagem: PTH; Valor/Partnumber: 100k
footprint CR25 (PTH 400 mils)
pins: 1, 2

## 100k SMD 0805
designator R?  Valor/Partnumber: 100k  (hidden comment: 100k SMD 0805)
Resistor SMD 0805 1/8W; Tolerância: 5%; Fornecedor1: *; Potência: 1/8W; Montagem: SMD
footprint 0805 (SMD 0805 inch - 2012 mm)
pins: 1, 2

## 100R PTH CR25
designator R?, comment 100R
Resistor PTH CR25 1/8W; Tolerância: 5%; Fornecedor1: *; Potência: 1/8W; Montagem: PTH; Valor/Partnumber: 100R
footprint CR25 (PTH 400 mils)
pins: 1, 2

## 100R SMD 0805
designator R?  Valor/Partnumber: 100R  (hidden comment: 100R SMD 0805)
Resistor SMD 0805 1/8W; Tolerância: 5%; Fornecedor1: *; Potência: 1/8W; Montagem: SMD
footprint 0805 (SMD 0805 inch - 2012 mm)
pins: 1, 2

## 110k SMD 0805
designator R?  Valor/Partnumber: 110k  (hidden comment: 110k SMD 0805)
Resistor SMD 0805 1/8W; Tolerância: 5%; Fornecedor1: *; Potência: 1/8W; Montagem: SMD
footprint 0805 (SMD 0805 inch - 2012 mm)
pins: 1, 2

## 110R SMD 0805
designator R?  Valor/Partnumber: 110R  (hidden comment: 110R SMD 0805)
Resistor SMD 0805 1/8W; Tolerância: 5%; Fornecedor1: *; Potência: 1/8W; Montagem: SMD
footprint 0805 (SMD 0805 inch - 2012 mm)
pins: 1, 2

## 120k SMD 0805
designator R?  Valor/Partnumber: 120k  (hidden comment: 120k SMD 0805)
Resistor SMD 0805 1/8W; Tolerância: 5%; Fornecedor1: *; Potência: 1/8W; Montagem: SMD
footprint 0805 (SMD 0805 inch - 2012 mm)
pins: 1, 2

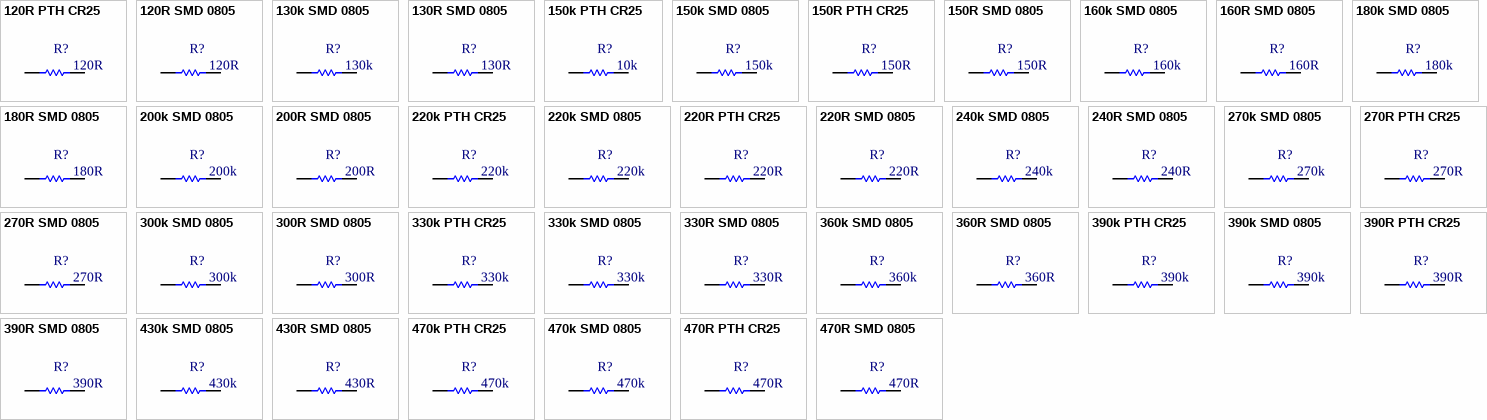
[diagram p4: symbols 120R PTH CR25 to 470R SMD 0805]

## 120R PTH CR25
designator R?, comment 120R
Resistor PTH CR25 1/8W; Tolerância: 5%; Fornecedor1: *; Potência: 1/8W; Montagem: PTH; Valor/Partnumber: 120R
footprint CR25 (PTH 400 mils)
pins: 1, 2

## 120R SMD 0805
designator R?  Valor/Partnumber: 120R  (hidden comment: 120R SMD 0805)
Resistor SMD 0805 1/8W; Tolerância: 5%; Fornecedor1: *; Potência: 1/8W; Montagem: SMD
footprint 0805 (SMD 0805 inch - 2012 mm)
pins: 1, 2

## 130k SMD 0805
designator R?  Valor/Partnumber: 130k  (hidden comment: 130k SMD 0805)
Resistor SMD 0805 1/8W; Tolerância: 5%; Fornecedor1: *; Potência: 1/8W; Montagem: SMD
footprint 0805 (SMD 0805 inch - 2012 mm)
pins: 1, 2

## 130R SMD 0805
designator R?  Valor/Partnumber: 130R  (hidden comment: 130R SMD 0805)
Resistor SMD 0805 1/8W; Tolerância: 5%; Fornecedor1: *; Potência: 1/8W; Montagem: SMD
footprint 0805 (SMD 0805 inch - 2012 mm)
pins: 1, 2

## 150k PTH CR25
designator R?, comment Valor/Partnumber: 10k  (hidden comment: 150k)
Resistor PTH CR25 1/8W; Tolerância: 5%; Fornecedor1: *; Potência: 1/8W; Montagem: PTH
footprint CR25 (PTH 400 mils)
pins: 1, 2

## 150k SMD 0805
designator R?  Valor/Partnumber: 150k  (hidden comment: 150k SMD 0805)
Resistor SMD 0805 1/8W; Tolerância: 5%; Fornecedor1: *; Potência: 1/8W; Montagem: SMD
footprint 0805 (SMD 0805 inch - 2012 mm)
pins: 1, 2

## 150R PTH CR25
designator R?, comment 150R
Resistor PTH CR25 1/8W; Tolerância: 5%; Fornecedor1: *; Potência: 1/8W; Montagem: PTH; Valor/Partnumber: 150R
footprint CR25 (PTH 400 mils)
pins: 1, 2

## 150R SMD 0805
designator R?  Valor/Partnumber: 150R  (hidden comment: 150R SMD 0805)
Resistor SMD 0805 1/8W; Tolerância: 5%; Fornecedor1: *; Potência: 1/8W; Montagem: SMD
footprint 0805 (SMD 0805 inch - 2012 mm)
pins: 1, 2

## 160k SMD 0805
designator R?  Valor/Partnumber: 160k  (hidden comment: 160k SMD 0805)
Resistor SMD 0805 1/8W; Tolerância: 5%; Fornecedor1: *; Potência: 1/8W; Montagem: SMD
footprint 0805 (SMD 0805 inch - 2012 mm)
pins: 1, 2

## 160R SMD 0805
designator R?  Valor/Partnumber: 160R  (hidden comment: 160R SMD 0805)
Resistor SMD 0805 1/8W; Tolerância: 5%; Fornecedor1: *; Potência: 1/8W; Montagem: SMD
footprint 0805 (SMD 0805 inch - 2012 mm)
pins: 1, 2

## 180k SMD 0805
designator R?  Valor/Partnumber: 180k  (hidden comment: 180k SMD 0805)
Resistor SMD 0805 1/8W; Tolerância: 5%; Fornecedor1: *; Potência: 1/8W; Montagem: SMD
footprint 0805 (SMD 0805 inch - 2012 mm)
pins: 1, 2

## 180R SMD 0805
designator R?  Valor/Partnumber: 180R  (hidden comment: 180R SMD 0805)
Resistor SMD 0805 1/8W; Tolerância: 5%; Fornecedor1: *; Potência: 1/8W; Montagem: SMD
footprint 0805 (SMD 0805 inch - 2012 mm)
pins: 1, 2

## 200k SMD 0805
designator R?  Valor/Partnumber: 200k  (hidden comment: 200k SMD 0805)
Resistor SMD 0805 1/8W; Tolerância: 5%; Fornecedor1: *; Potência: 1/8W; Montagem: SMD
footprint 0805 (SMD 0805 inch - 2012 mm)
pins: 1, 2

## 200R SMD 0805
designator R?  Valor/Partnumber: 200R  (hidden comment: 200R SMD 0805)
Resistor SMD 0805 1/8W; Tolerância: 5%; Fornecedor1: *; Potência: 1/8W; Montagem: SMD
footprint 0805 (SMD 0805 inch - 2012 mm)
pins: 1, 2

## 220k PTH CR25
designator R?, comment 220k
Resistor PTH CR25 1/8W; Tolerância: 5%; Fornecedor1: *; Potência: 1/8W; Montagem: PTH; Valor/Partnumber: 220k
footprint CR25 (PTH 400 mils)
pins: 1, 2

## 220k SMD 0805
designator R?  Valor/Partnumber: 220k  (hidden comment: 220k SMD 0805)
Resistor SMD 0805 1/8W; Tolerância: 5%; Fornecedor1: *; Potência: 1/8W; Montagem: SMD
footprint 0805 (SMD 0805 inch - 2012 mm)
pins: 1, 2

## 220R PTH CR25
designator R?, comment 220R
Resistor PTH CR25 1/8W; Tolerância: 5%; Fornecedor1: *; Potência: 1/8W; Montagem: PTH; Valor/Partnumber: 220R
footprint CR25 (PTH 400 mils)
pins: 1, 2

## 220R SMD 0805
designator R?  Valor/Partnumber: 220R  (hidden comment: 220R SMD 0805)
Resistor SMD 0805 1/8W; Tolerância: 5%; Fornecedor1: *; Potência: 1/8W; Montagem: SMD
footprint 0805 (SMD 0805 inch - 2012 mm)
pins: 1, 2

## 240k SMD 0805
designator R?  Valor/Partnumber: 240k  (hidden comment: 240k SMD 0805)
Resistor SMD 0805 1/8W; Tolerância: 5%; Fornecedor1: *; Potência: 1/8W; Montagem: SMD
footprint 0805 (SMD 0805 inch - 2012 mm)
pins: 1, 2

## 240R SMD 0805
designator R?  Valor/Partnumber: 240R  (hidden comment: 240R SMD 0805)
Resistor SMD 0805 1/8W; Tolerância: 5%; Fornecedor1: *; Potência: 1/8W; Montagem: SMD
footprint 0805 (SMD 0805 inch - 2012 mm)
pins: 1, 2

## 270k SMD 0805
designator R?  Valor/Partnumber: 270k  (hidden comment: 270k SMD 0805)
Resistor SMD 0805 1/8W; Tolerância: 5%; Fornecedor1: *; Potência: 1/8W; Montagem: SMD
footprint 0805 (SMD 0805 inch - 2012 mm)
pins: 1, 2

## 270R PTH CR25
designator R?, comment 270R
Resistor PTH CR25 1/8W; Tolerância: 5%; Fornecedor1: *; Potência: 1/8W; Montagem: PTH; Valor/Partnumber: 270R
footprint CR25 (PTH 400 mils)
pins: 1, 2

## 270R SMD 0805
designator R?  Valor/Partnumber: 270R  (hidden comment: 270R SMD 0805)
Resistor SMD 0805 1/8W; Tolerância: 5%; Fornecedor1: *; Potência: 1/8W; Montagem: SMD
footprint 0805 (SMD 0805 inch - 2012 mm)
pins: 1, 2

## 300k SMD 0805
designator R?  Valor/Partnumber: 300k  (hidden comment: 300k SMD 0805)
Resistor SMD 0805 1/8W; Tolerância: 5%; Fornecedor1: *; Potência: 1/8W; Montagem: SMD
footprint 0805 (SMD 0805 inch - 2012 mm)
pins: 1, 2

## 300R SMD 0805
designator R?  Valor/Partnumber: 300R  (hidden comment: 300R SMD 0805)
Resistor SMD 0805 1/8W; Tolerância: 5%; Fornecedor1: *; Potência: 1/8W; Montagem: SMD
footprint 0805 (SMD 0805 inch - 2012 mm)
pins: 1, 2

## 330k PTH CR25
designator R?, comment 330k
Resistor PTH CR25 1/8W; Tolerância: 5%; Fornecedor1: *; Potência: 1/8W; Montagem: PTH; Valor/Partnumber: 330k
footprint CR25 (PTH 400 mils)
pins: 1, 2

## 330k SMD 0805
designator R?  Valor/Partnumber: 330k  (hidden comment: 330k SMD 0805)
Resistor SMD 0805 1/8W; Tolerância: 5%; Fornecedor1: *; Potência: 1/8W; Montagem: SMD
footprint 0805 (SMD 0805 inch - 2012 mm)
pins: 1, 2

## 330R SMD 0805
designator R?  Valor/Partnumber: 330R  (hidden comment: 330R SMD 0805)
Resistor SMD 0805 1/8W; Tolerância: 5%; Fornecedor1: *; Potência: 1/8W; Montagem: SMD
footprint 0805 (SMD 0805 inch - 2012 mm)
pins: 1, 2

## 360k SMD 0805
designator R?  Valor/Partnumber: 360k  (hidden comment: 360k SMD 0805)
Resistor SMD 0805 1/8W; Tolerância: 5%; Fornecedor1: *; Potência: 1/8W; Montagem: SMD
footprint 0805 (SMD 0805 inch - 2012 mm)
pins: 1, 2

## 360R SMD 0805
designator R?  Valor/Partnumber: 360R  (hidden comment: 360R SMD 0805)
Resistor SMD 0805 1/8W; Tolerância: 5%; Fornecedor1: *; Potência: 1/8W; Montagem: SMD
footprint 0805 (SMD 0805 inch - 2012 mm)
pins: 1, 2

## 390k PTH CR25
designator R?, comment 390k
Resistor PTH CR25 1/8W; Tolerância: 5%; Fornecedor1: *; Potência: 1/8W; Montagem: PTH; Valor/Partnumber: 390k
footprint CR25 (PTH 400 mils)
pins: 1, 2

## 390k SMD 0805
designator R?  Valor/Partnumber: 390k  (hidden comment: 390k SMD 0805)
Resistor SMD 0805 1/8W; Tolerância: 5%; Fornecedor1: *; Potência: 1/8W; Montagem: SMD
footprint 0805 (SMD 0805 inch - 2012 mm)
pins: 1, 2

## 390R PTH CR25
designator R?, comment 390R
Resistor PTH CR25 1/8W; Tolerância: 5%; Fornecedor1: *; Potência: 1/8W; Montagem: PTH; Valor/Partnumber: 390R
footprint CR25 (PTH 400 mils)
pins: 1, 2

## 390R SMD 0805
designator R?  Valor/Partnumber: 390R  (hidden comment: 390R SMD 0805)
Resistor SMD 0805 1/8W; Tolerância: 5%; Fornecedor1: *; Potência: 1/8W; Montagem: SMD
footprint 0805 (SMD 0805 inch - 2012 mm)
pins: 1, 2

## 430k SMD 0805
designator R?  Valor/Partnumber: 430k  (hidden comment: 430k SMD 0805)
Resistor SMD 0805 1/8W; Tolerância: 5%; Fornecedor1: *; Potência: 1/8W; Montagem: SMD
footprint 0805 (SMD 0805 inch - 2012 mm)
pins: 1, 2

## 430R SMD 0805
designator R?  Valor/Partnumber: 430R  (hidden comment: 430R SMD 0805)
Resistor SMD 0805 1/8W; Tolerância: 5%; Fornecedor1: *; Potência: 1/8W; Montagem: SMD
footprint 0805 (SMD 0805 inch - 2012 mm)
pins: 1, 2

## 470k PTH CR25
designator R?, comment 470k
Resistor PTH CR25 1/8W; Tolerância: 5%; Fornecedor1: *; Potência: 1/8W; Montagem: PTH; Valor/Partnumber: 470k
footprint CR25 (PTH 400 mils)
pins: 1, 2

## 470k SMD 0805
designator R?  Valor/Partnumber: 470k  (hidden comment: 470k SMD 0805)
Resistor SMD 0805 1/8W; Tolerância: 5%; Fornecedor1: *; Potência: 1/8W; Montagem: SMD
footprint 0805 (SMD 0805 inch - 2012 mm)
pins: 1, 2

## 470R PTH CR25
designator R?, comment 470R
Resistor PTH CR25 1/8W; Tolerância: 5%; Fornecedor1: *; Potência: 1/8W; Montagem: PTH; Valor/Partnumber: 470R
footprint CR25 (PTH 400 mils)
pins: 1, 2

## 470R SMD 0805
designator R?  Valor/Partnumber: 470R  (hidden comment: 470R SMD 0805)
Resistor SMD 0805 1/8W; Tolerância: 5%; Fornecedor1: *; Potência: 1/8W; Montagem: SMD
footprint 0805 (SMD 0805 inch - 2012 mm)
pins: 1, 2

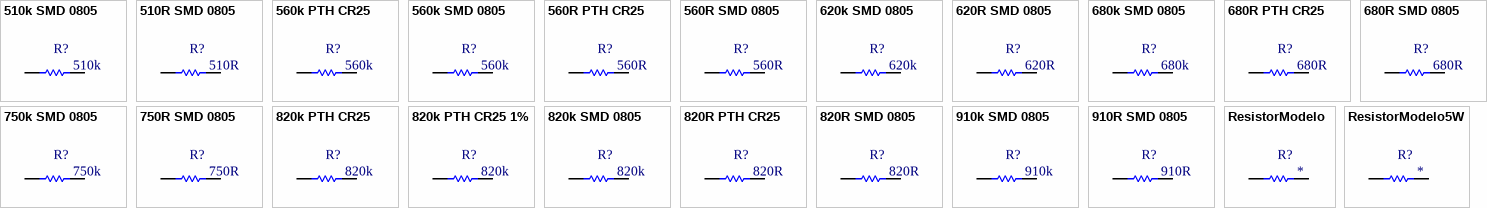
[diagram p5: symbols 510k SMD 0805 to ResistorModelo5W]

## 510k SMD 0805
designator R?  Valor/Partnumber: 510k  (hidden comment: 510k SMD 0805)
Resistor SMD 0805 1/8W; Tolerância: 5%; Fornecedor1: *; Potência: 1/8W; Montagem: SMD
footprint 0805 (SMD 0805 inch - 2012 mm)
pins: 1, 2

## 510R SMD 0805
designator R?  Valor/Partnumber: 510R  (hidden comment: 510R SMD 0805)
Resistor SMD 0805 1/8W; Tolerância: 5%; Fornecedor1: *; Potência: 1/8W; Montagem: SMD
footprint 0805 (SMD 0805 inch - 2012 mm)
pins: 1, 2

## 560k PTH CR25
designator R?, comment 560k
Resistor PTH CR25 1/8W; Tolerância: 5%; Fornecedor1: *; Potência: 1/8W; Montagem: PTH; Valor/Partnumber: 560k
footprint CR25 (PTH 400 mils)
pins: 1, 2

## 560k SMD 0805
designator R?  Valor/Partnumber: 560k  (hidden comment: 560k SMD 0805)
Resistor SMD 0805 1/8W; Tolerância: 5%; Fornecedor1: *; Potência: 1/8W; Montagem: SMD
footprint 0805 (SMD 0805 inch - 2012 mm)
pins: 1, 2

## 560R PTH CR25
designator R?, comment 560R
Resistor PTH CR25 1/8W; Tolerância: 5%; Fornecedor1: *; Potência: 1/8W; Montagem: PTH; Valor/Partnumber: 560R
footprint CR25 (PTH 400 mils)
pins: 1, 2

## 560R SMD 0805
designator R?  Valor/Partnumber: 560R  (hidden comment: 560R SMD 0805)
Resistor SMD 0805 1/8W; Tolerância: 5%; Fornecedor1: *; Potência: 1/8W; Montagem: SMD
footprint 0805 (SMD 0805 inch - 2012 mm)
pins: 1, 2

## 620k SMD 0805
designator R?  Valor/Partnumber: 620k  (hidden comment: 620k SMD 0805)
Resistor SMD 0805 1/8W; Tolerância: 5%; Fornecedor1: *; Potência: 1/8W; Montagem: SMD
footprint 0805 (SMD 0805 inch - 2012 mm)
pins: 1, 2

## 620R SMD 0805
designator R?  Valor/Partnumber: 620R  (hidden comment: 620R SMD 0805)
Resistor SMD 0805 1/8W; Tolerância: 5%; Fornecedor1: *; Potência: 1/8W; Montagem: SMD
footprint 0805 (SMD 0805 inch - 2012 mm)
pins: 1, 2

## 680k SMD 0805
designator R?  Valor/Partnumber: 680k  (hidden comment: 680k SMD 0805)
Resistor SMD 0805 1/8W; Tolerância: 5%; Fornecedor1: *; Potência: 1/8W; Montagem: SMD
footprint 0805 (SMD 0805 inch - 2012 mm)
pins: 1, 2

## 680R PTH CR25
designator R?, comment 680R
Resistor PTH CR25 1/8W; Tolerância: 5%; Fornecedor1: *; Potência: 1/8W; Montagem: PTH; Valor/Partnumber: 680R
footprint CR25 (PTH 400 mils)
pins: 1, 2

## 680R SMD 0805
designator R?  Valor/Partnumber: 680R  (hidden comment: 680R SMD 0805)
Resistor SMD 0805 1/8W; Tolerância: 5%; Fornecedor1: *; Potência: 1/8W; Montagem: SMD
footprint 0805 (SMD 0805 inch - 2012 mm)
pins: 1, 2

## 750k SMD 0805
designator R?  Valor/Partnumber: 750k  (hidden comment: 750k SMD 0805)
Resistor SMD 0805 1/8W; Tolerância: 5%; Fornecedor1: *; Potência: 1/8W; Montagem: SMD
footprint 0805 (SMD 0805 inch - 2012 mm)
pins: 1, 2

## 750R SMD 0805
designator R?  Valor/Partnumber: 750R  (hidden comment: 750R SMD 0805)
Resistor SMD 0805 1/8W; Tolerância: 5%; Fornecedor1: *; Potência: 1/8W; Montagem: SMD
footprint 0805 (SMD 0805 inch - 2012 mm)
pins: 1, 2

## 820k PTH CR25
designator R?, comment 820k
Resistor PTH CR25 1/8W; Tolerância: 5%; Fornecedor1: *; Potência: 1/8W; Montagem: PTH; Valor/Partnumber: 820k
footprint CR25 (PTH 400 mils)
pins: 1, 2

## 820k PTH CR25 1%
designator R?, comment 820k
Resistor PTH CR25 1/8W 1%; Tolerância: 1%; Fornecedor1: *; Potência: 1/8W; Montagem: PTH; Valor/Partnumber: 820k
footprint CR25 (PTH 400 mils)
pins: 1, 2

## 820k SMD 0805
designator R?  Valor/Partnumber: 820k  (hidden comment: 820k SMD 0805)
Resistor SMD 0805 1/8W; Tolerância: 5%; Fornecedor1: *; Potência: 1/8W; Montagem: SMD
footprint 0805 (SMD 0805 inch - 2012 mm)
pins: 1, 2

## 820R PTH CR25
designator R?, comment 820R
Resistor PTH CR25 1/8W; Tolerância: 5%; Fornecedor1: *; Potência: 1/8W; Montagem: PTH; Valor/Partnumber: 820R
footprint CR25 (PTH 400 mils)
pins: 1, 2

## 820R SMD 0805
designator R?  Valor/Partnumber: 820R  (hidden comment: 820R SMD 0805)
Resistor SMD 0805 1/8W; Tolerância: 5%; Fornecedor1: *; Potência: 1/8W; Montagem: SMD
footprint 0805 (SMD 0805 inch - 2012 mm)
pins: 1, 2

## 910k SMD 0805
designator R?  Valor/Partnumber: 910k  (hidden comment: 910k SMD 0805)
Resistor SMD 0805 1/8W; Tolerância: 5%; Fornecedor1: *; Potência: 1/8W; Montagem: SMD
footprint 0805 (SMD 0805 inch - 2012 mm)
pins: 1, 2

## 910R SMD 0805
designator R?  Valor/Partnumber: 910R  (hidden comment: 910R SMD 0805)
Resistor SMD 0805 1/8W; Tolerância: 5%; Fornecedor1: *; Potência: 1/8W; Montagem: SMD
footprint 0805 (SMD 0805 inch - 2012 mm)
pins: 1, 2

## ResistorModelo
designator R?  (value not drawn)
Resistor PTH CR25 1/8W; Tolerância: 5%; Montagem: SMD; Fornecedor1: *; Potência: 1/8W; Valor/Partnumber: *
footprint 0805 (SMD 0805 inch - 2012 mm)
footprint 0201 (SMD - 0201 inch - 0603 mm)
footprint 0402 (SMD 0402 inch - 1005 mm)
footprint 1206 (SMD 1206 inch - 3216 mm)
footprint 1210 (SMD 1210 inch - 3225 mm)
footprint 1806 (SMD 1806 inch -  4516mm)
footprint 1812 (SMD 1812 inch -  4532mm)
footprint 2010 (SMD 2010 inch - 5025 mm)
footprint CR25 (PTH 400 mils)
pins: 1, 2

## ResistorModelo5W
designator R?  (value not drawn)
Resistor PTH 5W; Tolerância: 5%; Potência: 1/8W; Montagem: SMD; Fornecedor1: *; Valor/Partnumber: *
footprint R5W (PTH 400 mils)
pins: 1, 2